# Altium schematic symbol library Capacitors.SchLib: 88 symbols (part 2 of 2)
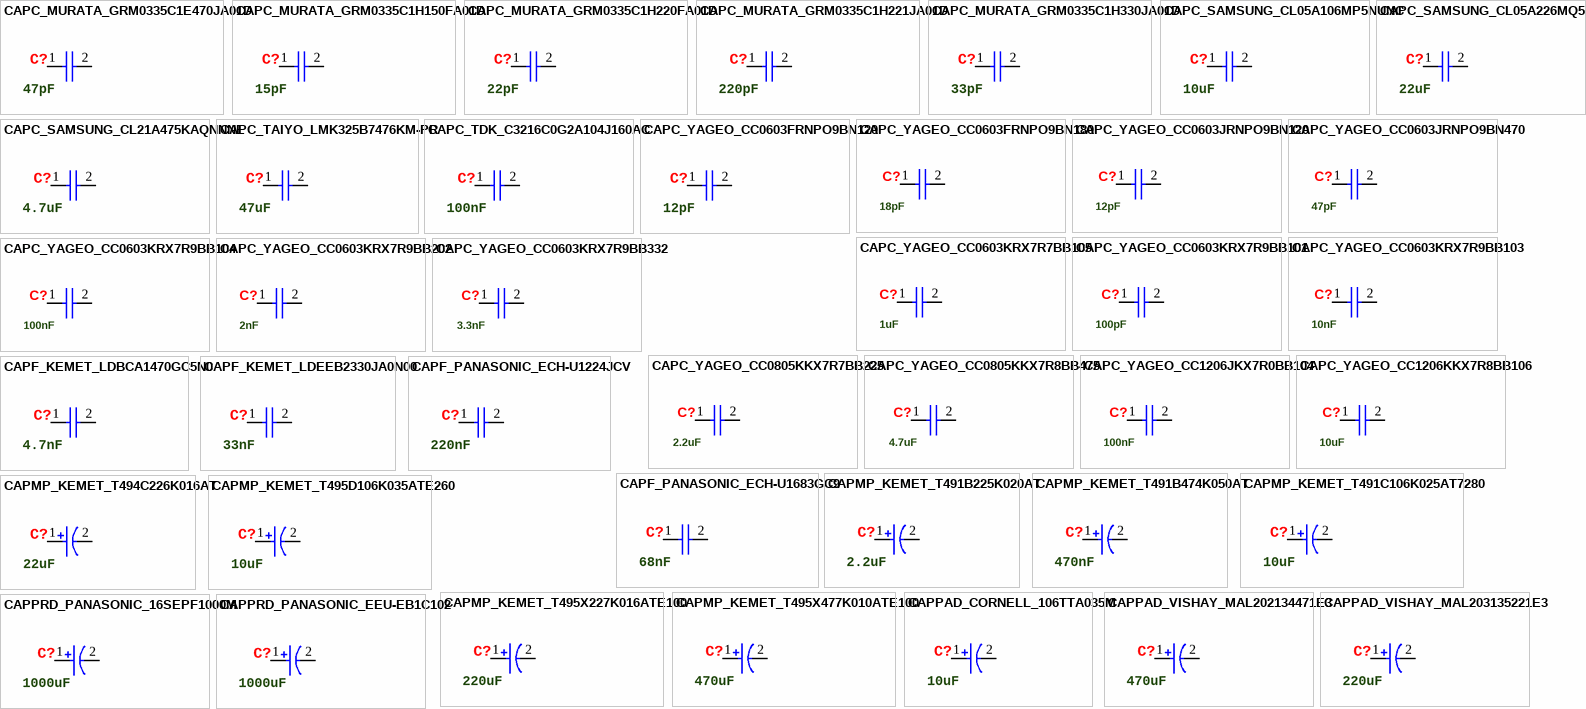
[diagram p3: symbols CAPC_MURATA_GRM0335C1E470JA01D to CAPPRD_PANASONIC_EEU-EB1C102]

## CAPC_SAMSUNG_CL05A106MP5NUNC
designator C?, comment 10uF
10 µF ±20% 10V Ceramic Capacitor X5R 0402 (1005 Metric); Manufacturer: Samsung; Manufacturer Part Number: CL05A106MP5NUNC; Category: Ceramic Capacitors; Case/Package: 0402; Min Operating Temperature: -55°C; Max Operating Temperature: 85°C; Tolerance: 20%; Dielectric: X5R; RoHS Compliant: Yes; ComponentLink1URL: https://media.digikey.com/pdf/Data%20Sheets/Samsung%20PDFs/CL05A106MP5NUNC_Spec.pdf; ComponentLink1Description: Datasheet; Capacitance: 10uF; Supplier 1: Digi-Key; Supplier Part Number 1: 1276-1450-1-ND; Supplier 2: Mouser; Supplier Part Number 2: 187-CL05A106MP5NUNC; Voltage Rating (DC): 10V; Mounting Type: SMD/SMT
footprint CAPC1005X70N (Chip Capacitor, EIA 0402, Metric 1005, Body 1.00x0.50mm, IPC Medium Density)
footprint CAPC1005X70M (Chip Capacitor, EIA 0402, Metric 1005, Body 1.00x0.50mm, IPC Low Density)
footprint CAPC1005X70L (Chip Capacitor, EIA 0402, Metric 1005, Body 1.00x0.50mm, IPC High Density)
simulation model CL05A106MP5NUN_Precise_DC0V_25degC (Model Description)
pins: 1, 2

## CAPC_SAMSUNG_CL05A226MQ5QUNC
designator C?, comment 22uF
22 µF ±20% 6.3V Ceramic Capacitor X5R 0402 (1005 Metric); Manufacturer: Samsung; Manufacturer Part Number: CL05A226MQ5QUNC; Category: Ceramic Capacitors; Case/Package: 0402; Min Operating Temperature: -55°C; Max Operating Temperature: 85°C; Tolerance: 20%; RoHS Compliant: Yes; ComponentLink1URL: https://media.digikey.com/pdf/Data%20Sheets/Samsung%20PDFs/CL05A226MQ5QUNC_Spec.pdf; ComponentLink1Description: Datasheet; Capacitance: 22uF; Dielectric: X5R; Voltage Rating (DC): 6.3V; Supplier 1: Digi-Key; Supplier Part Number 1: 1276-6834-1-ND; Supplier 2: Mouser; Supplier Part Number 2: 187-CL05A226MQ5QUNC; Mounting Type: SMD/SMT
footprint CAPC1005X70N (Chip Capacitor, EIA 0402, Metric 1005, Body 1.00x0.50mm, IPC Medium Density)
footprint CAPC1005X70M (Chip Capacitor, EIA 0402, Metric 1005, Body 1.00x0.50mm, IPC Low Density)
footprint CAPC1005X70L (Chip Capacitor, EIA 0402, Metric 1005, Body 1.00x0.50mm, IPC High Density)
simulation model CL05A226MQ5QUN_Precise_DC0V_25degC (Model Description)
pins: 1, 2

## CAPC_SAMSUNG_CL21A475KAQNNNE
designator C?, comment 4.7uF
4.7 µF ±10% 25V Ceramic Capacitor X5R 0805 (2012 Metric); Manufacturer: Samsung; Manufacturer Part Number: CL21A475KAQNNNE; Category: Ceramic Capacitors; Min Operating Temperature: -55°C; Max Operating Temperature: 85°C; Tolerance: 10%; Dielectric: X5R; Voltage Rating (DC): 25V; RoHS Compliant: Yes; ComponentLink1URL: https://media.digikey.com/pdf/Data%20Sheets/Samsung%20PDFs/CL21A475KAQNNNE_Spec.pdf; ComponentLink1Description: Datasheet; Capacitance: 4.7uF; Case/Package: 0805; Supplier 1: Digi-Key; Supplier Part Number 1: 1276-1244-1-ND; Supplier 2: Mouser; Supplier Part Number 2: 187-CL21A475KAQNNNE; Mounting Type: SMD/SMT
footprint CAPC2012X145N (Chip Capacitor, EIA 0805, Metric 2012, Body 2.00x1.25mm, IPC Medium Density)
footprint CAPC2012X145L (Chip Capacitor, EIA 0805, Metric 2012, Body 2.00x1.25mm, IPC High Density)
footprint CAPC2012X145M (Chip Capacitor, EIA 0805, Metric 2012, Body 2.00x1.25mm, IPC Low Density)
simulation model CL21A475KAQNNN_Precise_DC0V_25degC (Model Description)
pins: 1, 2

## CAPC_TAIYO_LMK325B7476KM-PR
designator C?, comment 47uF
47 µF ±10% 10V Ceramic Capacitor X7R 1210 (3225 Metric); Manufacturer: Taiyo Yuden; Manufacturer Part Number: LMK325B7476KM-PR; Category: Ceramic Capacitors; Case/Package: 1210; Min Operating Temperature: -55°C; Max Operating Temperature: 125°C; Capacitance: 47uF; Tolerance: 10%; RoHS Compliant: Yes; ComponentLink1URL: https://eu.mouser.com/datasheet/2/396/mlcc02_e-1307760.pdf; ComponentLink1Description: Datasheet; Dielectric: X7R; Supplier 1: Digi-Key; Supplier 2: Mouser; Supplier Part Number 1: 587-5921-1-ND; Supplier Part Number 2: 963-LMK325B7476KM-PR; Voltage Rating (DC): 10V; Mounting Type: SMD/SMT
footprint CAPC3225X270N (Chip Capacitor, EIA 1210, Metric 3225, Body 3.20x2.50mm, IPC Medium Density)
footprint CAPC3225X270M (Chip Capacitor, EIA 1210, Metric 3225, Body 3.20x2.50mm, IPC Low Density)
footprint CAPC3225X270L (Chip Capacitor, EIA 1210, Metric 3225, Body 3.20x2.50mm, IPC High Density)
simulation model MSASL32MSB7476_PNB25 (Model Description)
pins: 1, 2

## CAPC_TDK_C3216C0G2A104J160AC
designator C?, comment 100nF
100 nF ±5% 100V Ceramic Capacitor C0G, NP0 1206 (3216 Metric); Manufacturer: TDK; Manufacturer Part Number: C3216C0G2A104J160AC; Category: Ceramic Capacitors; Case/Package: 1206; Min Operating Temperature: -55°C; Max Operating Temperature: 125°C; Tolerance: 5%; Dielectric: C0G; Voltage Rating (DC): 100V; Capacitance: 100nF; ComponentLink1URL: https://www.digikey.com/htmldatasheets/production/1224188/0/0/1/c2012x7r2a223k125aa.pdf; ComponentLink1Description: Datasheet; RoHS Compliant: Yes; Supplier 1: Digi-Key; Supplier 2: Mouser; Supplier Part Number 1: 445-172677-1-ND; Supplier Part Number 2: 810-C3216C0G2A104J6C; Mounting Type: SMD/SMT
footprint CAPC3216X180N (Chip Capacitor, EIA 1206, Metric 3216, Body 3.20x1.60mm, IPC Medium Density)
footprint CAPC3216X180L (Chip Capacitor, EIA 1206, Metric 3216, Body 3.20x1.60mm, IPC High Density)
footprint CAPC3216X180M (Chip Capacitor, EIA 1206, Metric 3216, Body 3.20x1.60mm, IPC Low Density)
simulation model C3216C0G2A104J160AC_p (Model Description)
pins: 1, 2

## CAPC_YAGEO_CC0603FRNPO9BN120
designator C?, comment 12pF
12 pF ±1% 50V Ceramic Capacitor C0G, NP0 0603 (1608 Metric); Manufacturer: Yageo; Manufacturer Part Number: CC0603FRNPO9BN120; Category: Ceramic Capacitors; Case/Package: 0603; Min Operating Temperature: -55°C; Max Operating Temperature: 125°C; Capacitance: 12pF; Tolerance: 1%; Dielectric: C0G; Voltage Rating (DC): 50V; RoHS Compliant: Yes; ComponentLink1URL: https://www.yageo.com/upload/media/product/productsearch/datasheet/mlcc/UPY-GP_NP0_16V-to-50V_18.pdf; ComponentLink1Description: Datasheet; Supplier 1: Digi-Key; Supplier Part Number 1: 311-3885-1-ND; Supplier 2: Mouser; Supplier Part Number 2: 603-C0603FRNPO9BN120; Mounting Type: SMD/SMT
footprint CAPC1608X90L (Chip Capacitor, EIA 0603, Metric 1608, Body 1.60x0.80mm, IPC High Density)
footprint CAPC1608X90M (Chip Capacitor, EIA 0603, Metric 1608, Body 1.60x0.80mm, IPC Low Density)
simulation model Capacitor (Model Description)
footprint CAPC1608X90N (Chip Capacitor, EIA 0603, Metric 1608, Body 1.60x0.80mm, IPC Medium Density)
pins: 1, 2

## CAPC_YAGEO_CC0603FRNPO9BN180
designator C?, comment 18pF
18 pF ±1% 50V Ceramic Capacitor C0G, NP0 0603 (1608 Metric); Manufacturer: Yageo; Manufacturer Part Number: CC0603FRNPO9BN180; Category: Ceramic Capacitors; Case/Package: 0603; Min Operating Temperature: -55°C; Max Operating Temperature: 125°C; Tolerance: 1%; Capacitance: 18pF; Dielectric: C0G; Voltage Rating (DC): 50V; RoHS Compliant: Yes; ComponentLink1Description: Datasheet; ComponentLink1URL: https://www.yageo.com/upload/media/product/productsearch/datasheet/mlcc/UPY-GP_NP0_16V-to-50V_18.pdf; Supplier 1: Digi-Key; Supplier Part Number 1: 311-3889-1-ND; Supplier 2: Mouser; Supplier Part Number 2: 603-CC603FRNPO9BN180; Mounting Type: SMD/SMT
footprint CAPC1608X90N (Chip Capacitor, EIA 0603, Metric 1608, Body 1.60x0.80mm, IPC Medium Density)
footprint CAPC1608X90M (Chip Capacitor, EIA 0603, Metric 1608, Body 1.60x0.80mm, IPC Low Density)
footprint CAPC1608X90L (Chip Capacitor, EIA 0603, Metric 1608, Body 1.60x0.80mm, IPC High Density)
simulation model Capacitor (Model Description)
pins: 1, 2

## CAPC_YAGEO_CC0603JRNPO9BN120
designator C?, comment 12pF
12 pF ±5% 50V Ceramic Capacitor C0G, NP0 0603 (1608 Metric); Manufacturer: Yageo; Manufacturer Part Number: CC0603JRNPO9BN120; Category: Ceramic Capacitors; Case/Package: 0603; Min Operating Temperature: -55°C; Max Operating Temperature: 125°C; Capacitance: 12pF; Tolerance: 5%; Voltage Rating (DC): 50V; Dielectric: C0G; RoHS Compliant: Yes; Supplier 1: Digi-Key; Supplier Part Number 1: 311-1059-1-ND; Supplier 2: Mouser; Supplier Part Number 2: 603-CC603JRNPO9BN120; ComponentLink1Description: Datasheet; ComponentLink1URL: https://www.yageo.com/upload/media/product/productsearch/datasheet/mlcc/UPY-GP_NP0_16V-to-50V_18.pdf; Mounting Type: SMD/SMT
footprint CAPC1608X90N (Chip Capacitor, EIA 0603, Metric 1608, Body 1.60x0.80mm, IPC Medium Density)
footprint CAPC1608X90L (Chip Capacitor, EIA 0603, Metric 1608, Body 1.60x0.80mm, IPC High Density)
footprint CAPC1608X90M (Chip Capacitor, EIA 0603, Metric 1608, Body 1.60x0.80mm, IPC Low Density)
simulation model Capacitor (Model Description)
pins: 1, 2

## CAPC_YAGEO_CC0603JRNPO9BN470
designator C?, comment 47pF
47 pF ±5% 50V Ceramic Capacitor C0G, NP0 0603 (1608 Metric); Manufacturer: Yageo; Manufacturer Part Number: CC0603JRNPO9BN470; Category: Ceramic Capacitors; Case/Package: 0603; Min Operating Temperature: -55°C; Max Operating Temperature: 125°C; Tolerance: 5%; Capacitance: 47pF; Dielectric: C0G; Voltage Rating (DC): 50V; RoHS Compliant: Yes; ComponentLink1URL: https://www.yageo.com/upload/media/product/productsearch/datasheet/mlcc/UPY-GP_NP0_16V-to-50V_18.pdf; ComponentLink1Description: Datasheet; Supplier 1: Digi-Key; Supplier Part Number 1: 311-1065-1-ND; Supplier 2: Mouser; Supplier Part Number 2: 603-CC603JRNPO9BN470; Mounting Type: SMD/SMT
footprint CAPC1608X90N (Chip Capacitor, EIA 0603, Metric 1608, Body 1.60x0.80mm, IPC Medium Density)
footprint CAPC1608X90L (Chip Capacitor, EIA 0603, Metric 1608, Body 1.60x0.80mm, IPC High Density)
footprint CAPC1608X90M (Chip Capacitor, EIA 0603, Metric 1608, Body 1.60x0.80mm, IPC Low Density)
simulation model Capacitor (Model Description)
pins: 1, 2

## CAPC_YAGEO_CC0603KRX7R7BB105
designator C?, comment 1uF
1 µF ±10% 16V Ceramic Capacitor X7R 0603 (1608 Metric); Manufacturer: Yageo; Manufacturer Part Number: CC0603KRX7R7BB105; Category: Ceramic Capacitors; Case/Package: 0603; Min Operating Temperature: -55°C; Max Operating Temperature: 125°C; Capacitance: 1uF; Tolerance: 10%; Dielectric: X7R; Voltage Rating (DC): 16V; RoHS Compliant: Yes; ComponentLink1URL: https://www.yageo.com/upload/media/product/productsearch/datasheet/mlcc/UPY-GPHC_X7R_6.3V-to-250V_22.pdf; ComponentLink1Description: Datasheet; Supplier 1: Digi-Key; Supplier Part Number 1: 311-1446-1-ND; Supplier 2: Mouser; Supplier Part Number 2: 603-CC603KRX7R7BB105; Mounting Type: SMD/SMT
footprint CAPC1608X90N (Chip Capacitor, EIA 0603, Metric 1608, Body 1.60x0.80mm, IPC Medium Density)
footprint CAPC1608X90M (Chip Capacitor, EIA 0603, Metric 1608, Body 1.60x0.80mm, IPC Low Density)
footprint CAPC1608X90L (Chip Capacitor, EIA 0603, Metric 1608, Body 1.60x0.80mm, IPC High Density)
simulation model Capacitor (Model Description)
pins: 1, 2

## CAPC_YAGEO_CC0603KRX7R9BB101
designator C?, comment 100pF
100 pF ±10% 50V Ceramic Capacitor X7R 0603 (1608 Metric); Manufacturer: Yageo; Manufacturer Part Number: CC0603KRX7R9BB101; Category: Ceramic Capacitors; Case/Package: 0603; Min Operating Temperature: -55°C; Max Operating Temperature: 125°C; Capacitance: 100pF; Tolerance: 10%; Dielectric: X7R; Voltage Rating (DC): 50V; RoHS Compliant: Yes; ComponentLink1URL: https://www.yageo.com/upload/media/product/productsearch/datasheet/mlcc/UPY-GPHC_X7R_6.3V-to-250V_22.pdf; ComponentLink1Description: Datasheet; Supplier 1: Digi-Key; Supplier Part Number 1: 311-3601-1-ND; Supplier 2: Mouser; Supplier Part Number 2: 603-CC603KRX7R9BB101; Mounting Type: SMD/SMT
footprint CAPC1608X90N (Chip Capacitor, EIA 0603, Metric 1608, Body 1.60x0.80mm, IPC Medium Density)
footprint CAPC1608X90M (Chip Capacitor, EIA 0603, Metric 1608, Body 1.60x0.80mm, IPC Low Density)
footprint CAPC1608X90L (Chip Capacitor, EIA 0603, Metric 1608, Body 1.60x0.80mm, IPC High Density)
simulation model Capacitor (Model Description)
pins: 1, 2

## CAPC_YAGEO_CC0603KRX7R9BB103
designator C?, comment 10nF
10 nF ±10% 50V Ceramic Capacitor X7R 0603 (1608 Metric); Manufacturer: Yageo; Manufacturer Part Number: CC0603KRX7R9BB103; Category: Ceramic Capacitors; Case/Package: 0603; Min Operating Temperature: -55°C; Max Operating Temperature: 125°C; Tolerance: 10%; Capacitance: 10nF; Dielectric: X7R; Voltage Rating (DC): 50V; RoHS Compliant: Yes; ComponentLink1URL: https://www.yageo.com/upload/media/product/productsearch/datasheet/mlcc/UPY-GPHC_X7R_6.3V-to-250V_22.pdf; ComponentLink1Description: Datasheet; Supplier 1: Digi-Key; Supplier Part Number 1: 311-1085-1-ND; Supplier 2: Mouser; Supplier Part Number 2: 603-CC603KRX7R9BB103; Mounting Type: SMD/SMT
footprint CAPC1608X90N (Chip Capacitor, EIA 0603, Metric 1608, Body 1.60x0.80mm, IPC Medium Density)
footprint CAPC1608X90L (Chip Capacitor, EIA 0603, Metric 1608, Body 1.60x0.80mm, IPC High Density)
footprint CAPC1608X90M (Chip Capacitor, EIA 0603, Metric 1608, Body 1.60x0.80mm, IPC Low Density)
simulation model Capacitor (Model Description)
pins: 1, 2

## CAPC_YAGEO_CC0603KRX7R9BB104
designator C?, comment 100nF
100 nF ±10% 50V Ceramic Capacitor X7R 0603 (1608 Metric); Manufacturer: Yageo; Manufacturer Part Number: CC0603KRX7R9BB104; Category: Ceramic Capacitors; Case/Package: 0603; Min Operating Temperature: -55°C; Max Operating Temperature: 125°C; Voltage Rating (DC): 50V; Tolerance: 10%; Dielectric: X7R; RoHS Compliant: Yes; ComponentLink1URL: https://www.yageo.com/upload/media/product/productsearch/datasheet/mlcc/UPY-GPHC_X7R_6.3V-to-250V_22.pdf; ComponentLink1Description: Datasheet; Capacitance: 100nF; Supplier 1: Digi-Key; Supplier Part Number 1: 311-1344-1-ND; Supplier 2: Mouser; Supplier Part Number 2: 603-CC603KRX7R9BB104; Mounting Type: SMD/SMT
footprint CAPC1608X90N (Chip Capacitor, EIA 0603, Metric 1608, Body 1.60x0.80mm, IPC Medium Density)
footprint CAPC1608X90M (Chip Capacitor, EIA 0603, Metric 1608, Body 1.60x0.80mm, IPC Low Density)
footprint CAPC1608X90L (Chip Capacitor, EIA 0603, Metric 1608, Body 1.60x0.80mm, IPC High Density)
simulation model Capacitor (Model Description)
pins: 1, 2

## CAPC_YAGEO_CC0603KRX7R9BB202
designator C?, comment 2nF
2 nF ±10% 50V Ceramic Capacitor X7R 0603 (1608 Metric); Manufacturer: Yageo; Manufacturer Part Number: CC0603KRX7R9BB202; Category: Ceramic Capacitors; Case/Package: 0603; Min Operating Temperature: -55°C; Max Operating Temperature: 125°C; Capacitance: 2nF; Voltage Rating (DC): 50V; Tolerance: 10%; Dielectric: X7R; ComponentLink1URL: https://www.yageo.com/upload/media/product/productsearch/datasheet/mlcc/UPY-GPHC_X7R_6.3V-to-250V_22.pdf; ComponentLink1Description: Datasheet; RoHS Compliant: Yes; Supplier 1: Digi-Key; Supplier Part Number 1: 311-4098-1-ND; Supplier 2: Mouser; Supplier Part Number 2: 603-CC603KRX7R9BB202; Mounting Type: SMD/SMT
footprint CAPC1608X90N (Chip Capacitor, EIA 0603, Metric 1608, Body 1.60x0.80mm, IPC Medium Density)
footprint CAPC1608X90M (Chip Capacitor, EIA 0603, Metric 1608, Body 1.60x0.80mm, IPC Low Density)
footprint CAPC1608X90L (Chip Capacitor, EIA 0603, Metric 1608, Body 1.60x0.80mm, IPC High Density)
simulation model Capacitor (Model Description)
pins: 1, 2

## CAPC_YAGEO_CC0603KRX7R9BB332
designator C?, comment 3.3nF
3.3 nF ±10% 50V Ceramic Capacitor X7R 0603 (1608 Metric); Manufacturer: Yageo; Manufacturer Part Number: CC0603KRX7R9BB332; Category: Ceramic Capacitors; Case/Package: 0603; Min Operating Temperature: -55°C; Max Operating Temperature: 125°C; Tolerance: 10%; Capacitance: 3.3nF; Dielectric: X7R; Voltage Rating (DC): 50V; RoHS Compliant: Yes; ComponentLink1URL: https://www.yageo.com/upload/media/product/productsearch/datasheet/mlcc/UPY-GPHC_X7R_6.3V-to-250V_22.pdf; ComponentLink1Description: Datasheet; Supplier 1: Digi-Key; Supplier Part Number 1: 311-1082-1-ND; Supplier 2: Mouser; Supplier Part Number 2: 603-CC603KRX7R9BB332; Mounting Type: SMD/SMT
footprint CAPC1608X90N (Chip Capacitor, EIA 0603, Metric 1608, Body 1.60x0.80mm, IPC Medium Density)
footprint CAPC1608X90M (Chip Capacitor, EIA 0603, Metric 1608, Body 1.60x0.80mm, IPC Low Density)
footprint CAPC1608X90L (Chip Capacitor, EIA 0603, Metric 1608, Body 1.60x0.80mm, IPC High Density)
simulation model Capacitor (Model Description)
pins: 1, 2

## CAPC_YAGEO_CC0805KKX7R7BB225
designator C?, comment 2.2uF
2.2 µF ±10% 16V Ceramic Capacitor X7R 0805 (2012 Metric); Manufacturer: Yageo; Manufacturer Part Number: CC0805KKX7R7BB225; Category: Ceramic Capacitors; Case/Package: 0805; Min Operating Temperature: -55°C; Max Operating Temperature: 125°C; Capacitance: 2.2uF; Tolerance: 10%; Dielectric: X7R; Voltage Rating (DC): 16V; RoHS Compliant: Yes; ComponentLink1URL: https://www.yageo.com/upload/media/product/productsearch/datasheet/mlcc/UPY-GPHC_X7R_6.3V-to-250V_22.pdf; ComponentLink1Description: Datasheet; Supplier 1: Digi-Key; Supplier Part Number 1: 311-1881-1-ND; Supplier 2: Mouser; Supplier Part Number 2: 603-CC805KKX7R7BB225; Mounting Type: SMD/SMT
footprint CAPC2012X145N (Chip Capacitor, EIA 0805, Metric 2012, Body 2.00x1.25mm, IPC Medium Density)
footprint CAPC2012X145M (Chip Capacitor, EIA 0805, Metric 2012, Body 2.00x1.25mm, IPC Low Density)
footprint CAPC2012X145L (Chip Capacitor, EIA 0805, Metric 2012, Body 2.00x1.25mm, IPC High Density)
simulation model Capacitor (Model Description)
pins: 1, 2

## CAPC_YAGEO_CC0805KKX7R8BB475
designator C?, comment 4.7uF
4.7 µF ±10% 25V Ceramic Capacitor X7R 0805 (2012 Metric); Manufacturer: Yageo; Manufacturer Part Number: CC0805KKX7R8BB475; Category: Ceramic Capacitors; Case/Package: 0805; Min Operating Temperature: -55°C; Max Operating Temperature: 125°C; Capacitance: 4.7uF; Tolerance: 10%; Dielectric: X7R; Voltage Rating (DC): 25V; RoHS Compliant: Yes; ComponentLink1URL: https://www.yageo.com/upload/media/product/productsearch/datasheet/mlcc/UPY-GPHC_X7R_6.3V-to-250V_22.pdf; ComponentLink1Description: Datasheet; Supplier 1: Digi-Key; Supplier Part Number 1: 311-1885-1-ND; Supplier 2: Mouser; Supplier Part Number 2: 603-CC805KKX7R8BB475; Mounting Type: SMD/SMT
footprint CAPC2012X145N (Chip Capacitor, EIA 0805, Metric 2012, Body 2.00x1.25mm, IPC Medium Density)
footprint CAPC2012X145L (Chip Capacitor, EIA 0805, Metric 2012, Body 2.00x1.25mm, IPC High Density)
footprint CAPC2012X145M (Chip Capacitor, EIA 0805, Metric 2012, Body 2.00x1.25mm, IPC Low Density)
simulation model Capacitor (Model Description)
pins: 1, 2

## CAPC_YAGEO_CC1206JKX7R0BB104
designator C?, comment 100nF
100 nF ±5% 100V Ceramic Capacitor X7R 1206 (3216 Metric); Manufacturer: Yageo; Manufacturer Part Number: CC1206JKX7R0BB104; Category: Ceramic Capacitors; Case/Package: 1206; Min Operating Temperature: -55°C; Max Operating Temperature: 125°C; Capacitance: 100nF; Tolerance: 5%; Voltage Rating (DC): 100V; Dielectric: X7R; RoHS Compliant: Yes; ComponentLink1URL: https://www.yageo.com/upload/media/product/productsearch/datasheet/mlcc/UPY-GPHC_X7R_6.3V-to-250V_22.pdf; ComponentLink1Description: Datasheet; Supplier 1: Digi-Key; Supplier Part Number 1: 311-3557-1-ND; Supplier 2: Mouser; Supplier Part Number 2: 603-CC126JKX7R0BB104; Mounting Type: SMD/SMT
footprint CAPC3216X180N (Chip Capacitor, EIA 1206, Metric 3216, Body 3.20x1.60mm, IPC Medium Density)
footprint CAPC3216X180M (Chip Capacitor, EIA 1206, Metric 3216, Body 3.20x1.60mm, IPC Low Density)
footprint CAPC3216X180L (Chip Capacitor, EIA 1206, Metric 3216, Body 3.20x1.60mm, IPC High Density)
simulation model Capacitor (Model Description)
pins: 1, 2

## CAPC_YAGEO_CC1206KKX7R8BB106
designator C?, comment 10uF
10 µF ±10% 25V Ceramic Capacitor X7R 1206 (3216 Metric); Manufacturer: Yageo; Manufacturer Part Number: CC1206KKX7R8BB106; Category: Ceramic Capacitors; Case/Package: 1206; Min Operating Temperature: -55°C; Max Operating Temperature: 125°C; Capacitance: 10uF; Tolerance: 10%; Dielectric: X7R; Voltage Rating (DC): 25V; RoHS Compliant: Yes; ComponentLink1Description: Datasheet; ComponentLink1URL: https://www.yageo.com/upload/media/product/productsearch/datasheet/mlcc/UPY-GPHC_X7R_6.3V-to-250V_22.pdf; Supplier 1: Digi-Key; Supplier Part Number 1: 311-1959-1-ND; Supplier 2: Mouser; Supplier Part Number 2: 603-CC126KKX7R8BB106; Mounting Type: SMD/SMT
footprint CAPC3216X180N - Yageo FC (Chip Capacitor, EIA 1206, Metric 3216, Body 3.20x1.60mm, IPC Medium Density)
footprint CAPC3216X180M - Yageo FC (Chip Capacitor, EIA 1206, Metric 3216, Body 3.20x1.60mm, IPC Low Density)
footprint CAPC3216X180L - Yageo FC (Chip Capacitor, EIA 1206, Metric 3216, Body 3.20x1.60mm, IPC High Density)
simulation model Capacitor (Model Description)
pins: 1, 2

## CAPF_KEMET_LDBCA1470GC5N0
designator C?, comment 4.7nF
4.7 nF Film Capacitor 40V 50V Polyphenylene Sulfide (PPS), Metallized - Stacked 1206 (3216 Metric); Manufacturer: KEMET; Manufacturer Part Number: LDBCA1470GC5N0; Tolerance: 2%; Category: Film Capacitors; Case/Package: 1206; Min Operating Temperature: -55°C; Max Operating Temperature: 125°C; Capacitance: 4.7nF; Voltage Rating (DC): 50V; Dielectric: PPS; RoHS Compliant: Yes; ComponentLink1URL: https://www.digikey.com/htmldatasheets/production/2492153/0/0/1/ldb-series-datasheet.pdf; ComponentLink1Description: Datasheet; Supplier 1: Digi-Key; Supplier 2: Mouser; Supplier Part Number 1: 399-6394-1-ND; Supplier Part Number 2: 80-LDBCA1470GC5N0; Mounting Type: SMD/SMT
footprint CAPF3417X11N (Film Capacitor, EIA 1206, Metric 3216, Body 3.40x1.70mm, IPC Medium Density)
footprint CAPF3417X11L (Film Capacitor, EIA 1206, Metric 3216, Body 3.40x1.70mm, IPC High Density)
footprint CAPF3417X11M (Film Capacitor, EIA 1206, Metric 3216, Body 3.40x1.70mm, IPC Low Density)
simulation model Capacitor (Model Description)
pins: 1, 2

## CAPF_KEMET_LDEEB2330JA0N00
designator C?, comment 33nF
33 nF Film Capacitor 63V 100V Polyester, Polyethylene Naphthalate (PEN), Metallized - Stacked 1210 (3225 Metric); Manufacturer: KEMET; Manufacturer Part Number: LDEEB2330JA0N00; Tolerance: 5%; Category: Film Capacitors; RoHS Compliant: Yes; Capacitance: 33nF; Case/Package: 1210; ComponentLink1Description: Datasheet; ComponentLink1URL: https://eu.mouser.com/datasheet/2/212/1/KEM_F3078_LDE-1103670.pdf; Dielectric: PEN; Max Operating Temperature: 125°C; Min Operating Temperature: -55°C; Supplier 1: Digi-Key; Supplier 2: Mouser; Supplier Part Number 1: 399-18532-1-ND; Supplier Part Number 2: 80-LDEEB2330JA0N00; Voltage Rating (DC): 100V; Mounting Type: SMD/SMT
simulation model Capacitor (Model Description)
footprint CAPC3225X210N (Chip Capacitor, EIA 1210, Metric 3225, Body 3.20x2.50mm, IPC Medium Density)
footprint CAPC3225X210L (Chip Capacitor, EIA 1210, Metric 3225, Body 3.20x2.50mm, IPC High Density)
footprint CAPC3225X210M (Chip Capacitor, EIA 1210, Metric 3225, Body 3.20x2.50mm, IPC Low Density)
pins: 1, 2

## CAPF_PANASONIC_ECH-U1224JCV
designator C?, comment 220nF
220 nF Film Capacitor 40V 100V Polyphenylene Sulfide (PPS), Metallized - Stacked 2825 (7163 Metric); Manufacturer: Panasonic; Manufacturer Part Number: ECH-U1224JCV; Tolerance: 5%; Category: Film Capacitors; Case/Package: 2825; Min Operating Temperature: -55°C; Max Operating Temperature: 105°C; Capacitance: 220nF; Voltage Rating (DC): 100V; Dielectric: PPS; RoHS Compliant: Yes; ComponentLink1URL: https://industrial.panasonic.com/ww/products/pt/film-cap-electroequip/models/ECHU1224JCV; ComponentLink1Description: Datasheet; Supplier 1: Digi-Key; Supplier 2: Mouser; Supplier Part Number 1: PCF1493CT-ND; Supplier Part Number 2: 667-ECH-U1224JCV; Mounting Type: SMD/SMT
simulation model Capacitor (Model Description)
footprint CAPC7163X51N (Chip Capacitor, EIA 2825, Metric 7163, Body 7.10x6.30mm, IPC Medium Density)
footprint CAPC7163X51L (Chip Capacitor, EIA 2825, Metric 7163, Body 7.10x6.30mm, IPC High Density)
footprint CAPC7163X51M (Chip Capacitor, EIA 2825, Metric 7163, Body 7.10x6.30mm, IPC Low Density)
pins: 1, 2

## CAPF_PANASONIC_ECH-U1683GC9
designator C?, comment 68nF
68 nF Film Capacitor 40V 100V Polyphenylene Sulfide (PPS), Metallized - Stacked 2416 (6041 Metric); Manufacturer: Panasonic; Manufacturer Part Number: ECH-U1683GC9; Tolerance: 2%; Category: Film Capacitors; Case/Package: 2416; Min Operating Temperature: -55°C; Max Operating Temperature: 105°C; Capacitance: 68nF; Voltage Rating (DC): 100V; RoHS Compliant: Yes; ComponentLink1URL: https://industrial.panasonic.com/cdbs/www-data/pdf/RDI0000/ABD0000C174.pdf; ComponentLink1Description: Datasheet; Supplier 1: Digi-Key; Supplier 2: Mouser; Supplier Part Number 1: PCF1504CT-ND; Supplier Part Number 2: 667-ECH-U1683GC9; Dielectric: PPS; Mounting Type: SMD/SMT
footprint CAPF6041X34N (Film Capacitor, 2-Leads, Body 6.00x4.10mm, IPC Medium Density)
footprint CAPF6041X34L (Film Capacitor, 2-Leads, Body 6.00x4.10mm, IPC High Density)
footprint CAPF6041X34M (Film Capacitor, 2-Leads, Body 6.00x4.10mm, IPC Low Density)
simulation model Capacitor (Model Description)
pins: 1, 2

## CAPMP_KEMET_T491B225K020AT
designator C?, comment 2.2uF
2.2 µF Molded Tantalum Capacitor 20 V 1411 (3528 Metric) 3.5Ohm; Manufacturer: KEMET; Manufacturer Part Number: T491B225K020AT; Tolerance: 20%; Voltage Rating (DC): 20V; Category: Tantalum Capacitors; Case/Package: 1411; Min Operating Temperature: -55°C; Max Operating Temperature: 125°C; Capacitance: 2.2uF; RoHS Compliant: Yes; ComponentLink1URL: https://www.digikey.com/htmldatasheets/production/2488154/0/0/1/t491b225k020at.pdf; ComponentLink1Description: Datasheet; Dielectric: Tantalum; Supplier 1: Digi-Key; Supplier 2: Mouser; Supplier Part Number 1: 399-3714-1-ND; Supplier Part Number 2: 80-T491B225K020; Mounting Type: SMD/SMT
simulation model T491B225K020AT (Model Description)
footprint CAPMP3528X21N (Molded Capacitor, EIA 1411, Metric 3528, Body 3.50x2.80mm, IPC Medium Density)
footprint CAPMP3528X21L (Molded Capacitor, EIA 1411, Metric 3528, Body 3.50x2.80mm, IPC High Density)
footprint CAPMP3528X21M (Molded Capacitor, EIA 1411, Metric 3528, Body 3.50x2.80mm, IPC Low Density)
pins: 1, 2

## CAPMP_KEMET_T491B474K050AT
designator C?, comment 470nF
470 nF Molded Tantalum Capacitor 50 V 1411 (3528 Metric) 9Ohm; Manufacturer: KEMET; Manufacturer Part Number: T491B474K050AT; Tolerance: 10%; Voltage Rating (DC): 50V; Category: Tantalum Capacitors; Case/Package: 1411; Min Operating Temperature: -55°C; Max Operating Temperature: 125°C; Capacitance: 470nF; RoHS Compliant: Yes; ComponentLink1URL: https://www.digikey.com/htmldatasheets/production/2488154/0/0/1/t491b225k020at.pdf; ComponentLink1Description: Datasheet; Dielectric: Tantalum; Supplier 1: Digi-Key; Supplier 2: Mouser; Supplier Part Number 1: 399-9727-1-ND; Supplier Part Number 2: 80-T491B474K050; Mounting Type: SMD/SMT
footprint CAPMP3528X21N (Molded Capacitor, EIA 1411, Metric 3528, Body 3.50x2.80mm, IPC Medium Density)
footprint CAPMP3528X21L (Molded Capacitor, EIA 1411, Metric 3528, Body 3.50x2.80mm, IPC High Density)
footprint CAPMP3528X21M (Molded Capacitor, EIA 1411, Metric 3528, Body 3.50x2.80mm, IPC Low Density)
simulation model T491B474K050AT (Model Description)
pins: 1, 2

## CAPMP_KEMET_T491C106K025AT7280
designator C?, comment 10uF
10 µF Molded Tantalum Capacitor 25 V 2312 (6032 Metric) 1.5Ohm; Manufacturer: KEMET; Manufacturer Part Number: T491C106K025AT7280; Tolerance: 10%; Voltage Rating (DC): 25V; Category: Tantalum Capacitors; Min Operating Temperature: -55°C; Max Operating Temperature: 125°C; RoHS Compliant: Yes; ComponentLink1URL: https://www.digikey.com/htmldatasheets/production/2488154/0/0/1/t491b225k020at.pdf; ComponentLink1Description: Datasheet; Capacitance: 10uF; Case/Package: 2312; Supplier 1: Digi-Key; Supplier Part Number 1: 399-10159-2-ND; Supplier 2: Mouser; Supplier Part Number 2: 80-T491C106K25AT7280; Dielectric: Tantalum; Mounting Type: SMD/SMT
footprint CAPMP6032X28N (Molded Capacitor, EIA 2312, Metric 6032, Body 6.00x3.20mm, IPC Medium Density)
footprint CAPMP6032X28L (Molded Capacitor, EIA 2312, Metric 6032, Body 6.00x3.20mm, IPC High Density)
footprint CAPMP6032X28M (Molded Capacitor, EIA 2312, Metric 6032, Body 6.00x3.20mm, IPC Low Density)
simulation model T491C106K025AT7280 (Model Description)
pins: 1, 2

## CAPMP_KEMET_T494C226K016AT
designator C?, comment 22uF
22 µF Molded Tantalum Capacitor 16 V 2312 (6032 Metric) 350mOhm; Manufacturer: KEMET; Manufacturer Part Number: T494C226K016AT; Tolerance: 10%; Voltage Rating (DC): 16V; Category: Tantalum Capacitors; Case/Package: 2312; Min Operating Temperature: -55°C; Max Operating Temperature: 125°C; Capacitance: 22uF; RoHS Compliant: Yes; ComponentLink1URL: https://eu.mouser.com/datasheet/2/212/1/KEM_T2008_T494-1093602.pdf; ComponentLink1Description: Datasheet; Dielectric: Tantalum; Supplier 1: Digi-Key; Supplier 2: Mouser; Supplier Part Number 1: 399-3845-1-ND; Supplier Part Number 2: 80-T494C226K016; Mounting Type: SMD/SMT
footprint CAPMP6032X28N (Molded Capacitor, EIA 2312, Metric 6032, Body 6.00x3.20mm, IPC Medium Density)
footprint CAPMP6032X28L (Molded Capacitor, EIA 2312, Metric 6032, Body 6.00x3.20mm, IPC High Density)
footprint CAPMP6032X28M (Molded Capacitor, EIA 2312, Metric 6032, Body 6.00x3.20mm, IPC Low Density)
simulation model T494C226K016AT (Model Description)
pins: 1, 2

## CAPMP_KEMET_T495D106K035ATE260
designator C?, comment 10uF
10 µF Molded Tantalum Capacitor 35 V 2917 (7343 Metric) 260mOhm; Manufacturer: KEMET; Manufacturer Part Number: T495D106K035ATE260; Tolerance: 10%; Voltage Rating (DC): 35V; Category: Tantalum Capacitors; Case/Package: 2917; Min Operating Temperature: -55°C; Max Operating Temperature: 125°C; Capacitance: 10uF; RoHS Compliant: Yes; ComponentLink1URL: https://eu.mouser.com/datasheet/2/212/1/KEM_T2009_T495-1092841.pdf; ComponentLink1Description: Datasheet; Dielectric: Tantalum; Mounting Type: SMD/SMT; Supplier 1: Digi-Key; Supplier 2: Mouser; Supplier Part Number 1: 399-11082-1-ND; Supplier Part Number 2: 80-T495D106K35ATE260
simulation model T495D106K035ATE260 (Model Description)
footprint CAPMP7343X31N (Molded Capacitor, EIA 2917, Metric 7343, Body 7.30x4.30mm, IPC Medium Density)
footprint CAPMP7343X31L (Molded Capacitor, EIA 2917, Metric 7343, Body 7.30x4.30mm, IPC High Density)
footprint CAPMP7343X31M (Molded Capacitor, EIA 2917, Metric 7343, Body 7.30x4.30mm, IPC Low Density)
pins: 1, 2

## CAPMP_KEMET_T495X227K016ATE100
designator C?, comment 220uF
220 µF Molded Tantalum Capacitor 16 V 2917 (7343 Metric) 100mOhm; Manufacturer: KEMET; Manufacturer Part Number: T495X227K016ATE100; Tolerance: 10%; Voltage Rating (DC): 16V; Category: Tantalum Capacitors; Case/Package: 2917; Min Operating Temperature: -55°C; Max Operating Temperature: 125°C; Capacitance: 220uF; RoHS Compliant: Yes; ComponentLink1URL: https://eu.mouser.com/datasheet/2/212/1/KEM_T2009_T495-1092841.pdf; ComponentLink1Description: Datasheet; Dielectric: Tantalum; Mounting Type: SMD/SMT; Supplier 1: Digi-Key; Supplier 2: Mouser; Supplier Part Number 1: 399-10409-1-ND; Supplier Part Number 2: 80-T495X227K16ATE100
simulation model T495X227K016ATE100 (Model Description)
footprint CAPMP7343X43N (Molded Capacitor, EIA 2917, Metric 7343, Body 7.30x4.30mm, IPC Medium Density)
footprint CAPMP7343X43L (Molded Capacitor, EIA 2917, Metric 7343, Body 7.30x4.30mm, IPC High Density)
footprint CAPMP7343X43M (Molded Capacitor, EIA 2917, Metric 7343, Body 7.30x4.30mm, IPC Low Density)
pins: 1, 2

## CAPMP_KEMET_T495X477K010ATE100
designator C?, comment 470uF
470 µF Molded Tantalum Capacitor 10 V 2917 (7343 Metric) 100mOhm; Manufacturer: KEMET; Manufacturer Part Number: T495X477K010ATE100; Voltage Rating (DC): 10V; Tolerance: 10%; Category: Tantalum Capacitors; Case/Package: 2917; Min Operating Temperature: -55°C; Max Operating Temperature: 125°C; Capacitance: 470uF; RoHS Compliant: Yes; ComponentLink1URL: https://eu.mouser.com/datasheet/2/212/1/KEM_T2009_T495-1092841.pdf; ComponentLink1Description: Datasheet; Dielectric: Tantalum; Mounting Type: SMD/SMT; Supplier 1: Digi-Key; Supplier 2: Mouser; Supplier Part Number 1: 399-10524-1-ND; Supplier Part Number 2: 80-T495X477K10ATE100
simulation model T495X477K010ATE100 (Model Description)
footprint CAPMP7343X43N (Molded Capacitor, EIA 2917, Metric 7343, Body 7.30x4.30mm, IPC Medium Density)
footprint CAPMP7343X43L (Molded Capacitor, EIA 2917, Metric 7343, Body 7.30x4.30mm, IPC High Density)
footprint CAPMP7343X43M (Molded Capacitor, EIA 2917, Metric 7343, Body 7.30x4.30mm, IPC Low Density)
pins: 1, 2

## CAPPAD_CORNELL_106TTA035M
designator C?, comment 10uF
10 µF 35 V Aluminum Electrolytic Capacitor Axial, Can 23.2101Ohm; Manufacturer: Cornell Dubilier; Manufacturer Part Number: 106TTA035M; Voltage Rating (DC): 35V; Tolerance: 20%; Capacitance: 10uF; ComponentLink1URL: https://www.cde.com/resources/catalogs/TTA.pdf; ComponentLink1Description: Datasheet; Case/Package: Axial; Category: Aluminum Electrolytic Capacitors; Max Operating Temperature: 85°C; Min Operating Temperature: -40°C; RoHS Compliant: Yes; Supplier 1: Digi-Key; Supplier 2: Mouser; Supplier Part Number 1: 1572-1653-ND; Supplier Part Number 2: 598-106TTA035M; Mounting Type: Through Hole
simulation model Capacitor (Model Description)
footprint CAPPAD1524W50L1300D500 (Aluminum Electrolytic Capacitor, Polarized Axial Diameter; Lead Spacing 15.24mm, Lead Width 0.5mm, Body Length 13mm, Body Diameter 5mm)
pins: 1, 2

## CAPPAD_VISHAY_MAL202134471E3
designator C?, comment 470uF
470 µF 10 V Aluminum Electrolytic Capacitor Axial, Can 680mOhm; Manufacturer: Vishay; Manufacturer Part Number: MAL202134471E3; Tolerance: 20%; Voltage Rating (DC): 10V; Category: Aluminum Electrolytic Capacitors; Case/Package: Axial; Min Operating Temperature: -40°C; Max Operating Temperature: 85°C; Capacitance: 470uF; RoHS Compliant: Yes; ComponentLink1URL: https://www.vishay.com/docs/28325/021asm.pdf; ComponentLink1Description: Datasheet; Supplier 1: Digi-Key; Supplier 2: Mouser; Supplier Part Number 1: 4006PHCT-ND; Supplier Part Number 2: 594-2222-021-34471; Mounting Type: Through Hole
footprint CAPPAD2540W80L1800D650 (Aluminum Electrolytic Capacitor, Polarized Axial Diameter; Lead Spacing 25.40mm, Lead Width 0.8mm, Body Length 18mm, Body Diameter 6.5mm)
simulation model Capacitor (Model Description)
pins: 1, 2

## CAPPAD_VISHAY_MAL203135221E3
designator C?, comment 220uF
220 µF 16 V Aluminum Electrolytic Capacitor Axial, Can 1.16Ohm; Manufacturer: Vishay; Manufacturer Part Number: MAL203135221E3; Tolerance: 50%; Voltage Rating (DC): 16V; Category: Aluminum Electrolytic Capacitors; Case/Package: Axial; Min Operating Temperature: -40°C; Max Operating Temperature: 85°C; Capacitance: 220uF; RoHS Compliant: Yes; ComponentLink1URL: https://www.vishay.com/docs/28327/030031as.pdf; ComponentLink1Description: Datasheet; Mounting Type: Through Hole; Supplier 1: Digi-Key; Supplier 2: Mouser; Supplier Part Number 1: 56-MAL203135221E3CT-ND; Supplier Part Number 2: 594-MAL203135221E3
simulation model Capacitor (Model Description)
footprint CAPPAD2540W80L1800D800 (Aluminum Electrolytic Capacitor, Polarized Axia Diameter; Lead Spacing 25.40mm, Lead Width 0.8mm, Body Length 18mm, Body Diameter 8mm)
pins: 1, 2

## CAPPRD_PANASONIC_16SEPF1000M
designator C?, comment 1000uF
1000 µF 16 V Aluminum - Polymer Capacitor Radial, Can 12mOhm 5000 Hrs @ 105°C; Manufacturer: Panasonic; Manufacturer Part Number: 16SEPF1000M; Voltage Rating (DC): 16V; Tolerance: 20%; Category: Polymer Capacitors; Case/Package: Radial; Min Operating Temperature: -55°C; Max Operating Temperature: 105°C; Capacitance: 1000uF; RoHS Compliant: Yes; ComponentLink1URL: https://industrial.panasonic.com/cdbs/www-data/pdf/AAB8000/AAB8000C250.pdf; ComponentLink1Description: Datasheet; Mounting Type: Through Hole; Supplier 1: Digi-Key; Supplier 2: Mouser; Supplier Part Number 1: P16300-ND; Supplier Part Number 2: 667-16SEPF1000M
simulation model Capacitor (Model Description)
footprint CAPPRD500W60L1300D1000 (Aluminum Electrolytic Capacitor, Polarized Radial Diameter; Lead Spacing 5mm, Lead Width 6mm, Body Length 13mm, Body Diameter 10mm)
pins: 1, 2

## CAPPRD_PANASONIC_EEU-EB1C102
designator C?, comment 1000uF
1000 µF 16 V Aluminum Electrolytic Capacitor Radial, Can 10000 Hrs @ 105°C; Manufacturer: Panasonic; Manufacturer Part Number: EEU-EB1C102; Tolerance: 20%; Voltage Rating (DC): 16V; Category: Aluminum Electrolytic Capacitors; Case/Package: Radial; Min Operating Temperature: -40°C; Max Operating Temperature: 105°C; Capacitance: 1000uF; RoHS Compliant: Yes; ComponentLink1URL: https://industrial.panasonic.com/cdbs/www-data/pdf/RDF0000/ABA0000C1024.pdf; ComponentLink1Description: Datasheet; Mounting Type: Through Hole; Supplier 1: Digi-Key; Supplier 2: Mouser; Supplier Part Number 1: P13119-ND; Supplier Part Number 2: 710-860020375017
simulation model Capacitor (Model Description)
footprint CAPPRD500W60L2000D1000 (Aluminum Electrolytic Capacitor, Polarized Radial Diameter; Lead Spacing 5mm, Lead Width 0.6mm, Body Length 20mm, Body Diameter 10mm)
pins: 1, 2

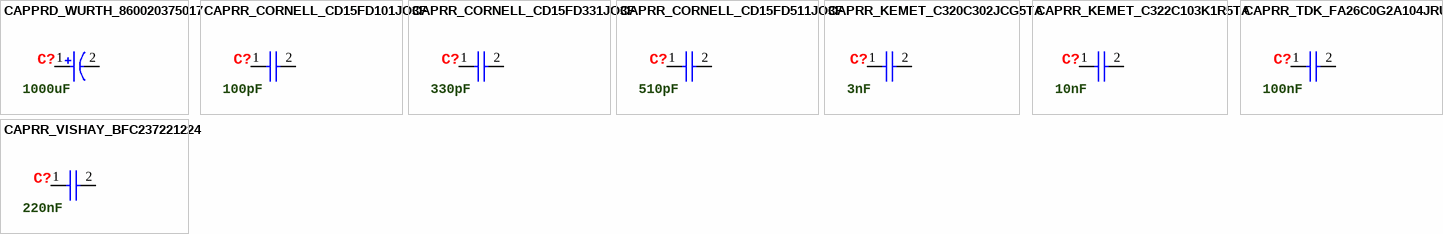
[diagram p2: symbols CAPPRD_WURTH_860020375017 to CAPRR_VISHAY_BFC237221224]

## CAPPRD_WURTH_860020375017
designator C?, comment 1000uF
1000 µF 16 V Aluminum Electrolytic Capacitor Radial, Can 2000 Hrs @ 105°C; Manufacturer: Wurth Electronics; Manufacturer Part Number: 860020375017; Tolerance: 20%; Voltage Rating (DC): 16V; Category: Aluminum Electrolytic Capacitors; Case/Package: Radial; Min Operating Temperature: -40°C; Max Operating Temperature: 105°C; Capacitance: 1000uF; RoHS Compliant: Yes; ComponentLink1URL: https://www.we-online.com/components/products/datasheet/860020375017.pdf; ComponentLink1Description: Datasheet; Mounting Type: Through Hole; Supplier 1: Digi-Key; Supplier 2: Mouser; Supplier Part Number 1: 732-8804-1-ND; Supplier Part Number 2: 710-860020375017
footprint CAPPRD500W62L1400D1000 (Aluminum Electrolytic Capacitor, Polarized Radial Diameter; Lead Spacing 5mm, Lead Width 0.62mm, Body Length 14mm, Body Diameter 10mm)
simulation model ATG5_860020375017_1mF (Model Description)
pins: 1, 2

## CAPRR_CORNELL_CD15FD101JO3F
designator C?, comment 100pF
100 pF ±5% Mica Capacitor 500 V Radial; Manufacturer: Cornell Dubilier; Manufacturer Part Number: CD15FD101JO3F; Voltage Rating (DC): 500V; Category: Mica Capacitors; Case/Package: Radial; Min Operating Temperature: -55°C; Max Operating Temperature: 125°C; Capacitance: 100pF; Tolerance: 5%; RoHS Compliant: Yes; ComponentLink1URL: https://www.cde.com/resources/catalogs/STD-DIPPED.pdf; ComponentLink1Description: Datasheet; Dielectric: Mica; Mounting Type: Through Hole; Supplier 1: Digi-Key; Supplier 2: Mouser; Supplier Part Number 1: 338-2589-ND; Supplier Part Number 2: 598-CD15FD101JO3F
footprint CAPRR590W60L1170T460H910 (Ceramic Capacitor, Non-Polarized Radial Rectangular; Lead Spacing 5.90mm, Lead Width 0.6mm, Body Length 11.70mm, Body Thickness 4.60mm, Body Height 9.10mm)
simulation model Capacitor (Model Description)
pins: 1, 2

## CAPRR_CORNELL_CD15FD331JO3F
designator C?, comment 330pF
330 pF ±5% Mica Capacitor 500 V Radial; Manufacturer: Cornell Dubilier; Manufacturer Part Number: CD15FD331JO3F; Voltage Rating (DC): 500V; Case/Package: Radial; Min Operating Temperature: -55°C; Max Operating Temperature: 125°C; Capacitance: 330pF; Tolerance: 5%; RoHS Compliant: Yes; ComponentLink1URL: https://www.cde.com/resources/catalogs/STD-DIPPED.pdf; ComponentLink1Description: Datasheet; Dielectric: Mica; Mounting Type: Through Hole; Category: Mica Capacitors; Supplier 1: Digi-Key; Supplier 2: Mouser; Supplier Part Number 1: 338-2595-ND; Supplier Part Number 2: 598-CD15FD331JO3F
simulation model Capacitor (Model Description)
footprint CAPRR590W60L1190T530H990 (Ceramic Capacitor, Non-Polarized Radial Rectangular; Lead Spacing 5.90mm, Lead Width 0.6mm, Body Length 11.90mm, Body Thickness 5.30mm, Body Height 9.90mm)
pins: 1, 2

## CAPRR_CORNELL_CD15FD511JO3F
designator C?, comment 510pF
510 pF ±5% Mica Capacitor 500 V Radial; Manufacturer: Cornell Dubilier; Manufacturer Part Number: CD15FD511JO3F; Voltage Rating (DC): 500V; Category: Mica Capacitors; Case/Package: Radial; Min Operating Temperature: -55°C; Max Operating Temperature: 125°C; Capacitance: 510pF; Tolerance: 5%; RoHS Compliant: Yes; ComponentLink1URL: https://www.cde.com/resources/catalogs/STD-DIPPED.pdf; ComponentLink1Description: Datasheet; Dielectric: Mica; Mounting Type: Through Hole; Supplier 1: Digi-Key; Supplier 2: Mouser; Supplier Part Number 1: 338-2647-ND; Supplier Part Number 2: 598-CD15FD511JO3F
footprint CAPRR590W60L1190T560H1020 (Ceramic Capacitor, Non-Polarized Radial Rectangular; Lead Spacing 5.90mm, Lead Width 0.6mm, Body Length 11.90mm, Body Thickness 5.60mm, Body Height 10.20mm)
simulation model Capacitor (Model Description)
pins: 1, 2

## CAPRR_KEMET_C320C302JCG5TA
designator C?, comment 3nF
3 nF ±5% 500V Ceramic Capacitor C0G, NP0 Radial; Manufacturer: KEMET; Manufacturer Part Number: C320C302JCG5TA; Category: Ceramic Capacitors; Case/Package: Radial; Min Operating Temperature: -55°C; Max Operating Temperature: 125°C; Capacitance: 3nF; Tolerance: 5%; Dielectric: C0G; Voltage Rating (DC): 500V; RoHS Compliant: Yes; ComponentLink1URL: https://connect.kemet.com:7667/gateway/IntelliData-ComponentDocumentation/1.0/download/datasheet/C320C302JCG5TA.pdf; ComponentLink1Description: Datasheet; Mounting Type: Through Hole; Supplier 1: Digi-Key; Supplier 2: Mouser; Supplier Part Number 1: 399-13542-ND; Supplier Part Number 2: 80-C320C302JCG
footprint CAPRR254W61L508T381H584 (Ceramic Capacitor, Non-Polarized Radial Rectangular; Lead Spacing 2.54mm, Lead Width 0.61mm, Body Length 5.08mm, Body Thickness 3.81mm, Body Height 5.84mm)
simulation model Capacitor (Model Description)
pins: 1, 2

## CAPRR_KEMET_C322C103K1R5TA
designator C?, comment 10nF
10 nF ±10% 100V Ceramic Capacitor X7R Radial; Manufacturer: KEMET; Manufacturer Part Number: C322C103K1R5TA; Category: Ceramic Capacitors; Case/Package: Radial; Min Operating Temperature: -55°C; Max Operating Temperature: 125°C; Tolerance: 10%; Capacitance: 10nF; Dielectric: X7R; Voltage Rating (DC): 100V; RoHS Compliant: Yes; ComponentLink1URL: https://connect.kemet.com:7667/gateway/IntelliData-ComponentDocumentation/1.0/download/datasheet/C322C103K1R5TA; ComponentLink1Description: Dataasheet; Mounting Type: Through Hole; Supplier 1: Digi-Key; Supplier 2: Mouser; Supplier Part Number 1: 399-4324-ND; Supplier Part Number 2: 80-C322C103K1R
simulation model Capacitor (Model Description)
footprint CAPRR508W61L508T318H660 (Ceramic Capacitor, Non-Polarized Radial Rectangular; Lead Spacing 5.08mm, Lead Width 0.61mm, Body Length 5.08mm, Body Thickness 3.18mm, Body Height 6.60mm)
pins: 1, 2

## CAPRR_TDK_FA26C0G2A104JRU06
designator C?, comment 100nF
100 nF ±5% 100V Ceramic Capacitor C0G, NP0 Radial; Manufacturer: TDK; Manufacturer Part Number: FA26C0G2A104JRU06; Category: Ceramic Capacitors; RoHS Compliant: Yes; Capacitance: 100nF; ComponentLink1Description: Dataasheet; ComponentLink1URL: https://product.tdk.com/en/system/files?file=dam/doc/product/capacitor/ceramic/lead-mlcc/catalog/leadmlcc_halogenfree_fa_en.pdf; Dielectric: C0G; Max Operating Temperature: 125°C; Min Operating Temperature: -55°C; Mounting Type: Through Hole; Supplier 1: Digi-Key; Supplier 2: Mouser; Supplier Part Number 1: 445-175399-1-ND; Supplier Part Number 2: 810-FA26C0G2A104JRU6; Tolerance: 5%; Voltage Rating (DC): 100V
simulation model Capacitor (Model Description)
footprint CAPRR500W60L550T350H600 (Ceramic Capacitor, Non-Polarized Radial Rectangular; Lead Spacing 5.00mm, Lead Width 0.60mm, Body Length 5.50mm, Body Thickness 3.50mm, Body Height 6.00mm)
pins: 1, 2

## CAPRR_VISHAY_BFC237221224
designator C?, comment 220nF
220 nF Film Capacitor 63V 100V Polyester, Metallized Radial; Manufacturer: Vishay; Manufacturer Part Number: BFC237221224; Tolerance: 10%; Dielectric: Polyester film; Category: Film Capacitors; Case/Package: Radial; Min Operating Temperature: -55°C; Max Operating Temperature: 105°C; Capacitance: 220nF; Voltage Rating (DC): 100V; RoHS Compliant: Yes; ComponentLink1URL: https://www.vishay.com/docs/28192/mkt372.pdf; ComponentLink1Description: Datasheet; Mounting Type: Through Hole; Supplier 1: Digi-Key; Supplier 2: Mouser; Supplier Part Number 1: BC1738-ND; Supplier Part Number 2: 594-2222-372-21224
simulation model Capacitor (Model Description)
footprint CAPRR1000W66L1250T400H1000 (Film Capacitor, Non-Polarized Radial Rectangular; Lead Spacing 10.00mm, Lead Width 0.66mm, Body Length 12.50mm, Body Thickness 4.00mm, Body Height 10.00mm)
pins: 1, 2